# Altium schematic symbol library Virtual Parts.SchLib: 5 symbols
Pins are listed as number, name and electrical type; pins without a type are passive.

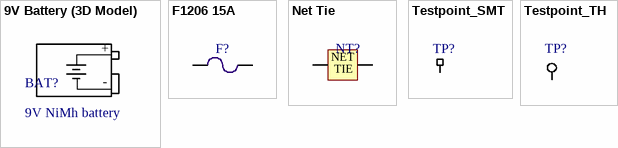
[diagram p0: symbols 9V Battery (3D Model) to Testpoint_TH]

## 9V Battery (3D Model)
designator BAT?, comment 9V NiMh battery
Just used as a keepout on the board; Supplier 1: Digi-Key; Supplier 2: Mouser; Supplier Part Number 1: NH22NBP-ND; Supplier Part Number 2: 525-NH22NBP
footprint 9V Battery (3D Body Only)
text: +; -

## F1206 15A
designator F?, comment JFC1206-2150FS  (value not drawn)
Chip Fuse Fast Blow 15A 2.9mΩ 66mV 150A 23.89 1206 Surface Mount Fuses; Supplier 3: LCSC; Supplier Part Number 3: C136356
footprint F1206-12A
pins: 1, 2

## Net Tie
designator NT?  (value not drawn)  (net tie, no BOM)
Net Tie
footprint NET_TIE
pins: 1, 2
text: NET; TIE

## Testpoint_SMT
designator TP?  (value not drawn)  (no BOM)
SMT Test Point
footprint TESTPOINT_SMT
pins: 1

## Testpoint_TH
designator TP?  (value not drawn)
Through-hole testpoint hook
footprint Testpoint_TH
pins: 1